# Altium schematic symbol library UCC21750DW.Schlib: 1 symbol
Pins are listed as number, name and electrical type; pins without a type are passive.

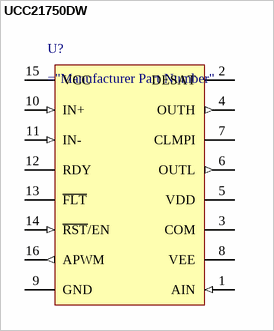
[diagram p0: symbol UCC21750DW]

## UCC21750DW
designator U?
IC, Isolator, Gate Driver, Split Outputs, Safety Functions
pins: 1 AIN (in), 2 DESAT (power), 3 COM (power), 4 OUTH (out), 5 VDD (power), 6 OUTL (out), 7 CLMPI, 8 VEE (power), 9 GND (power), 10 IN+ (in), 11 IN- (in), 12 RDY (oc), 13 ~{FLT} (oc), 14 ~{RST}/EN (in), 15 VCC (power), 16 APWM (out)